# Altium footprint library Magnetics.PcbLib: 3 footprints
Each footprint in its own frame and in the unit in brackets; x right, y up, seen from the top. Pads: shape width x height; smd on the part's side, far side on the other; paste and mask are expansions set on the pad; w line width, h text height; cw(c..) or ccw(c..) is an arc to the next point about the centre after c.
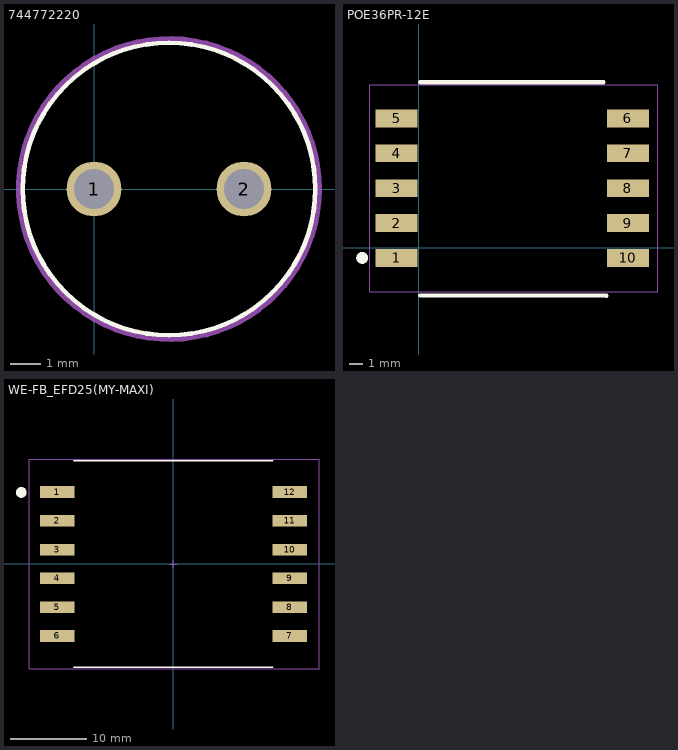
[diagram p0: the footprints below, top view; thin cyan lines are the x and y axes]

## 744772220 [mil] "5.08 dip"
pads (2):
  round 72 hole 52 mask+0: 1(0,0) 2(196.85,0)
Top Overlay:
  circle w6: c98.43,0 r192
  text ".Designator" at 110,-229.09 h31.5
Top Component Outline:
  circle w7.87: c98.43,0 r196.85
3D body "744772220.stp": height 370.03, standoff -200.83, extent -126.84,-221.85 306.84,211.84

## POE36PR-12E [mm]
pads (10):
  rect 3x1.27 smd: 1(-1.6,-0.737) 2(-1.6,1.763) 3(-1.6,4.263) 4(-1.6,6.763) 5(-1.6,9.263) 6(14.99,9.263) 7(14.99,6.763) 8(14.99,4.263) 9(14.99,1.763) 10(14.99,-0.737)
Top Overlay:
  circle w0.254: c-4.064,-0.737 r0.3
  rectangle: -4.318,-1.016 -3.785,-0.533
  lines w0.3: 0.1,-3.429 13.462,-3.454 ; 0.1,11.862 13.233,11.862
  text ".Designator" at 17.854,11.506 h0.8
Top Component Outline:
  lines w0.013: -3.505,-3.15 -3.505,11.684 17.145,11.684 17.145,-3.15 -3.505,-3.15
3D body "Coilcraft-POEXXPR.STEP": height 13.67, standoff -0.2, extent -1.93,-3.008 15.07,11.492

## WE-FB_EFD25(MY-MAXI) [mm] "Flyback Transformer, size EFD25"
height 13.69
pads (12):
  rect 4.5x1.52 smd: 1(-15.19,9.4) 2(-15.19,5.64) 3(-15.19,1.88) 4(-15.19,-1.88) 5(-15.19,-5.64) 6(-15.19,-9.4) 7(15.19,-9.4) 8(15.19,-5.64) 9(15.19,-1.88) 10(15.19,1.88) 11(15.19,5.64) 12(15.19,9.4)
Top Overlay:
  circle w0.8: c-19.863,9.347 r0.3
  lines w0.2: -13,-13.515 13,-13.515 ; -13,13.515 13,13.515
  text ".Designator" at 19.733,13.487 h0.8
Top Component Outline:
  lines w0.05: -18.847,-13.715 19.025,-13.715 19.025,13.715 -18.847,13.715 -18.847,-13.715
Mechanical 15:
  lines w0.05: -0.5,0 0.5,0 ; 0,-0.5 0,0.5
3D body "750311595 (rev1).stp": height 12.9, standoff -0.1, extent -15.75,-12.5 15.75,12.5